# Altium schematic symbol library Sensors.SchLib: 16 symbols
Pins are listed as number, name and electrical type; pins without a type are passive.

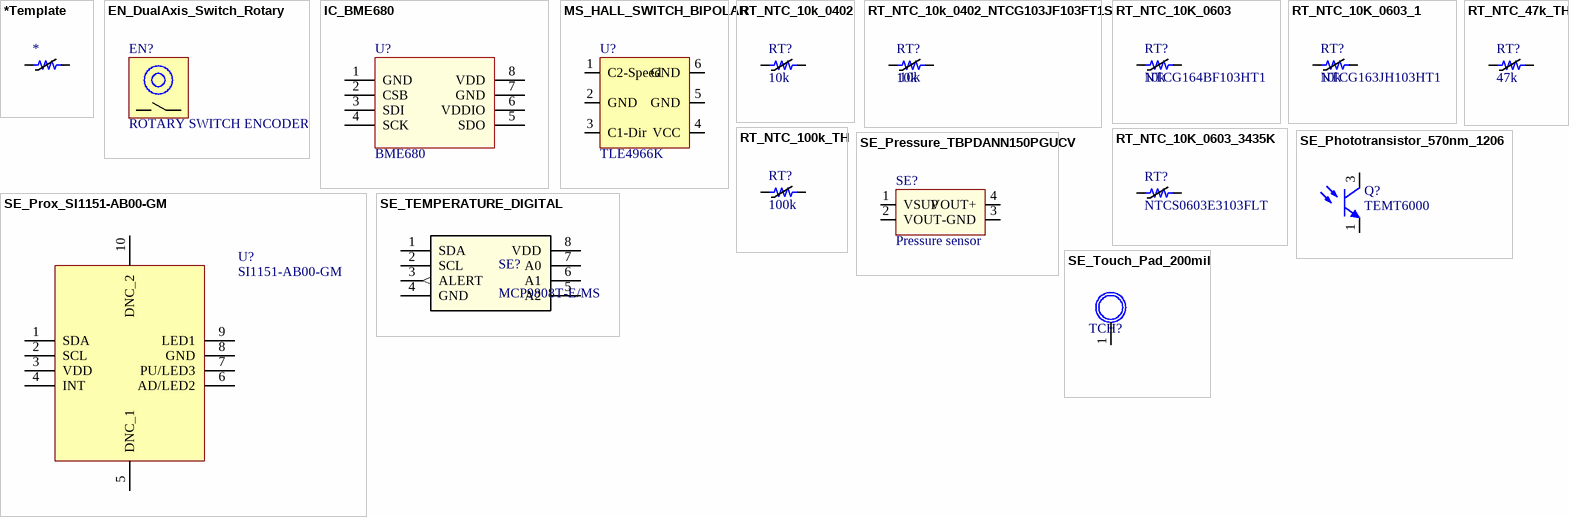
[diagram p0: symbols *Template to SE_Touch_Pad_200mil]

## *Template
designator *
Reel Stock: N/A; Last modified by: J.Jaramillo; Last modified date: 20240310
pins: 1, 2

## EN_DualAxis_Switch_Rotary
designator EN?, comment ROTARY SWITCH ENCODER  (mechanical)
PCBA WITH DUAL ROTARY SWITCH ENCODER; Manufacturer: PCBWAY; Manufacturer Part Number: W60346AXY381; Supplier 1: PCBWAY; Supplier Part Number 1: RSG01-429; Reel Stock: N/A; Last modified by: J.Jaramillo; Last modified date: 20240310

## IC_BME680
designator U?, comment BME680
SENSOR RH PRESSURE TEMP VOC; Manufacturer: Bosch Sensortec; Manufacturer Part Number: BME680; Supplier 1: Digi-Key; Supplier Part Number 1: 828-1077-1-ND; Reel Stock: N/A; Last modified by: J.Jaramillo; Last modified date: 20240310; ComponentLink1Description: Digi-Key; ComponentLink1URL: https://www.digikey.com/en/products/detail/bosch-sensortec/BME680/7401317
footprint IC_BME680 (20220516 / E.Naranjo)
pins: 1 GND, 2 CSB, 3 SDI, 4 SCK, 5 SDO, 6 VDDIO, 7 GND, 8 VDD

## MS_HALL_SWITCH_BIPOLAR
designator U?, comment TLE4966K
MAGNETIC SWITCH BIPOLAR TSOP-6-6; Manufacturer: Infineon Technologies; Manufacturer Part Number: TLE4966KHTSA1; Supplier 1: Digi-Key; Supplier Part Number 1: TLE4966KHTSA1CT-ND; Reel Stock: N/A; Last modified by: J.Jaramillo; Last modified date: 20240310; ComponentLink1Description: Digi-Key; ComponentLink1URL: https://www.digikey.com/en/products/detail/infineon-technologies/tle4966khtsa1/2023081
footprint SOT_23_6 (SC-74,SOT-457 / 20220809 / C-E.Rincon)
pins: 1 C2-Speed, 2 GND, 3 C1-Dir, 4 VCC, 5 GND, 6 GND

## RT_NTC_10k_0402
designator RT?, comment value 10k  (hidden comment: 10k_NTC)
THERMISTOR NTC 10KOHM 3380K 0402; Manufacturer: TDK Corporation; Manufacturer Part Number: NTCG103JF103FT1; Supplier 1: Digi-Key; Supplier Part Number 1: 445-2550-1-ND; Reel Stock: N/A; Last modified by: J.Jaramillo; Last modified date: 20240310; ComponentLink1Description: Digi-Key; ComponentLink1URL: https://www.digikey.com/product-detail/en/tdk-corporation/NTCG103JF103FT1/445-2550-1-ND/934249
footprint 0402 (1005 Metric / 20190725/ NJ-P.Vargas.A)
pins: 1, 2

## RT_NTC_10k_0402_NTCG103JF103FT1S
designator RT?, comment 10k
THERMISTOR NTC 10KOHM 3380K 0402; Manufacturer: TDK Corporation; Manufacturer Part Number: NTCG103JF103FT1S; Supplier 1: Digi-Key; Supplier Part Number 1: 445-174506-1-ND; Reel Stock: N/A; Last modified by: J.Jaramillo; Last modified date: 20240310; ComponentLink1Description: Digi-Key; ComponentLink1URL: https://www.digikey.com/en/products/detail/tdk-corporation/NTCG103JF103FT1S/5981584?s=N4IgTCBcDaIHIBUDCBxAjABgMwCkBimWeCaAyiALoC%2BQA; value: 10k
footprint 0402 (1005 Metric / 20190729/ J-P.Vargas.A)
pins: 1, 2

## RT_NTC_10K_0603
designator RT?, comment NTCG164BF103HT1  value 10k
THERMISTOR NTC 10KOHM 4037K 0603; Manufacturer: TDK Corporation; Manufacturer Part Number: NTCG164BF103HT1; Supplier 1: Digi-Key; Supplier Part Number 1: 445-180080-1-ND; Reel Stock: N/A; Last modified by: J.Jaramillo; Last modified date: 20240310; ComponentLink1Description: Digi-Key; ComponentLink1URL: https://www.digikey.com/en/products/detail/tdk-corporation/NTCG164BF103HT1/8565504
footprint 0603 (20220719 / E.Naranjo)
pins: 1, 2

## RT_NTC_10K_0603_1
designator RT?, comment NTCG163JH103HT1  value 10k
THERMISTOR NTC 10KOHM 3380K 0603; Manufacturer: TDK Corporation; Manufacturer Part Number: NTCG163JH103HT1; Supplier 1: Digi-Key; Supplier Part Number 1: 445-181388-1-ND; Reel Stock: N/A; Last modified by: J.Jaramillo; Last modified date: 20240310; ComponentLink1Description: Digi-Key; ComponentLink1URL: https://www.digikey.com/en/products/detail/tdk-corporation/NTCG163JH103HT1/5285665?s=N4IgTCBcDaIHIBUDCBxAjANgMwCkASaADFngmiALoC%2BQA
footprint 0603 (20220719 / E.Naranjo)
pins: 1, 2

## RT_NTC_10K_0603_3435K
designator RT?, comment NTCS0603E3103FLT
THERMISTOR NTC 10KOHM 3435K 0603; Manufacturer: Vishay Beyschlag/Draloric/BC Components; Manufacturer Part Number: NTCS0603E3103FLT; Supplier 1: Digi-Key; Supplier Part Number 1: BC2737CT-ND; Reel Stock: N/A; Last modified by: J.Jaramillo; Last modified date: 20240310; ComponentLink1Description: Digi-Key; ComponentLink1URL: https://www.digikey.com/en/products/detail/vishay-beyschlag-draloric-bc-components/NTCS0603E3103FLT/2615420?s=N4IgTCBcDaIHIBUDCBlADANjQZgKLYEYcAxAGQRAF0BfIA
footprint 0603 (20220719 / E.Naranjo)
pins: 1, 2

## RT_NTC_47k_TH
designator RT?, comment value 47k  (hidden comment: NXRT15WB473FA3A016)
THERMISTOR NTC 47KOHM 4050K BEAD; Manufacturer: Murata Electronics North America; Manufacturer Part Number: NXRT15WB473FA3A016; Supplier 1: Digi-Key; Supplier Part Number 1: 490-14492-1-ND; Reel Stock: N/A; Last modified by: J.Jaramillo; Last modified date: 20240310; ComponentLink1Description: Digi-Key; ComponentLink1URL: https://www.digikey.com/products/en?keywords=490-14492-1-ND
footprint H_2x1_TH_100mil (/ 20190401 / M-X.Arias)
pins: 1, 2

## RT_NTC_100k_TH
designator RT?, comment value 100k  (hidden comment: NXRT15WF104FA5B025)
THERM NTC 100KOHM 4250K BEAD; Manufacturer: Murata Electronics North America; Manufacturer Part Number: NXRT15WF104FA5B025; Supplier 1: Digi-Key; Supplier Part Number 1: 490-18166-ND; Reel Stock: N/A; Last modified by: J.Jaramillo; Last modified date: 20240310; ComponentLink1Description: Digi-Key; ComponentLink1URL: https://www.digikey.com/en/products/detail/murata-electronics/NXRT15WF104FA5B025/9686744?s=N4IgTCBcDaICwE4AMBaAjADjQNmygcgCIgC6AvkA
footprint H_2x1_TH_100mil (/ 20190401 / M-X.Arias)
pins: 1, 2

## SE_Phototransistor_570nm_1206
designator Q?, comment TEMT6000
SENSOR PHOTO 570NM TOP VIEW 1206; Manufacturer: Vishay Semiconductors; Manufacturer Part Number: TEMT6000X01; Supplier 1: Digi-Key; Supplier Part Number 1: 751-1055-1-ND; Reel Stock: N/A; Last modified by: J.Jaramillo; Last modified date: 20240310; ComponentLink1Description: Digi-Key; ComponentLink1URL: https://www.digikey.com/en/products/detail/vishay-semiconductor-opto-division/TEMT6000X01/1681189?s=N4IgTCBcDaIOwFYCMBaJAGBC0oHIBEQBdAXyA
footprint 1206-3 (3216 metric, SMD, 3-Leads, Body 4x2mm / 20210709 / H-D.Garcia)
pins: 1 E, 3 C

## SE_Pressure_TBPDANN150PGUCV
designator SE?, comment Pressure sensor
SENSOR PRESSURE GAUGE; Manufacturer: Honeywell Sensing and Productivity Solutions; Manufacturer Part Number: TBPDANN150PGUCV; Supplier 1: Digi-Key; Supplier Part Number 1: 480-TBPDANN150PGUCV-ND; Reel Stock: N/A; Last modified by: J.Jaramillo; Last modified date: 20240310; ComponentLink1Description: Digi-Key; ComponentLink1URL: https://www.digikey.com/en/products/detail/honeywell-sensing-and-productivity-solutions/TBPDANN150PGUCV/4696874?s=N4IgTCBcDaICoCEAKARAggOQwRgKwAYkBxAVQGEA1EAXQF8g
footprint SE_Pressure_TBPDANN150PGUCV (/ 20201223 / J-E.Pachon)
pins: 1 VSUP, 2 VOUT-, 3 GND, 4 VOUT+

## SE_Prox_SI1151-AB00-GM
designator U?, comment SI1151-AB00-GM
IR PROX SENSOR I2C 1 LED DRIVER; Manufacturer: Silicon Labs; Manufacturer Part Number: SI1151-AB00-GM; Supplier 1: Digi-Key; Supplier Part Number 1: 336-5875-ND; Reel Stock: N/A; Last modified by: J.Jaramillo; Last modified date: 20240310; ComponentLink1Description: Digi-Key; ComponentLink1URL: https://www.digikey.com/en/products/detail/silicon-labs/SI1151-AB00-GM/9842913
footprint SE_PROX_SI1151-AB00-GM (20220517 / E.Naranjo)
pins: 1 SDA, 2 SCL, 3 VDD, 4 INT, 5 DNC_1, 6 AD/LED2, 7 PU/LED3, 8 GND, 9 LED1, 10 DNC_2

## SE_TEMPERATURE_DIGITAL
designator SE?, comment MCP9808T-E/MS
SENSOR DIGITAL -40C-125C 8MSOP; Manufacturer: Microchip Technology; Manufacturer Part Number: MCP9808T-E/MS; Supplier 1: Digi-Key; Supplier Part Number 1: MCP9808T-E/MSCT-ND; Reel Stock: N/A; Last modified by: J.Jaramillo; Last modified date: 20240310; ComponentLink1Description: Digi-Key; ComponentLink1URL: https://www.digikey.com/en/products/detail/microchip-technology/mcp9808t-e-ms/2803667
footprint 8-MSOP_3mm (/20230822/J-A.Sepulveda)
pins: 1 SDA, 2 SCL, 3 ALERT (out), 4 GND (power), 5 A2, 6 A1, 7 A0, 8 VDD (power)

## SE_Touch_Pad_200mil
designator TCH?
Touch Pad Sensor rounded 200mil; Reel Stock: N/A; Last modified by: J.Jaramillo; Last modified date: 20240319
footprint Touch-Pad (/20240319/J.Jaramillo)
pins: 1